# EAGLE library part TTP223-BA6 (library TTP223-BA6)
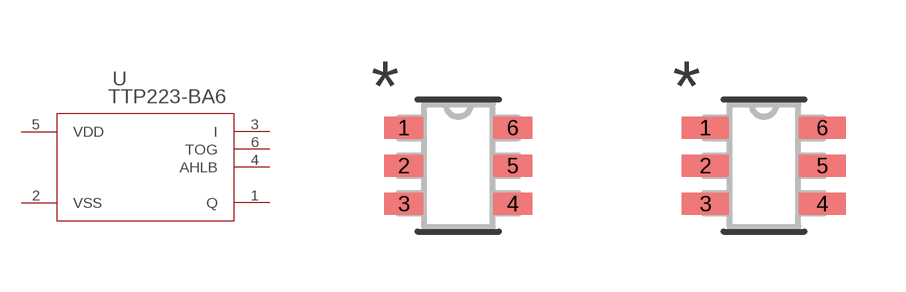
[diagram p0: symbol with the pads of DBV6_TEX; footprints DBV6_TEX, DBV6_TEX-M]

Designator prefix U

## TTP223-BA6 (BUILT_BY: EMA_UL_Team; MANUFACTURER_PART_NUMBER: TPD4E1U06DBVR; SOURCELIBRARY: TI_2017-02-16; VENDOR: Texas Instruments)  [DBV6_TEX]
1  Q
2  VSS  pwr
3  I
4  AHLB
5  VDD  pwr
6  TOG

## TTP223-BA6DBV6_TEX-M (BUILT_BY: EMA_UL_Team; MANUFACTURER_PART_NUMBER: TPD4E1U06DBVR; SOURCELIBRARY: TI_2017-02-16; VENDOR: Texas Instruments)  [DBV6_TEX-M]
Pads as for DBV6_TEX

## TTP223-BA6DBV6_TEX-L (BUILT_BY: EMA_UL_Team; MANUFACTURER_PART_NUMBER: TPD4E1U06DBVR; SOURCELIBRARY: TI_2017-02-16; VENDOR: Texas Instruments)  [DBV6_TEX-L]
Pads as for DBV6_TEX

## Footprint DBV6_TEX (pad centres in mm)
smd 0.972 x 0.558: 1 -1.362,0.95; 2 -1.362,0; 3 -1.362,-0.95; 4 1.362,-0.95; 5 1.362,0; 6 1.362,0.95

## Footprint DBV6_TEX-M (pad centres in mm)
smd 1.172 x 0.558: 1 -1.462,0.95; 2 -1.462,0; 3 -1.462,-0.95; 4 1.462,-0.95; 5 1.462,0; 6 1.462,0.95

## Footprint DBV6_TEX-L (pad centres in mm)
smd 0.772 x 0.508: 1 -1.262,0.95; 2 -1.262,0; 3 -1.262,-0.95; 4 1.262,-0.95; 5 1.262,0; 6 1.262,0.95